# EAGLE library part MIKROE-924 (library MIKROE-924)
microSD click mikroBUS Source: Datasheet <https://www.mikroe.com/microsd-click>
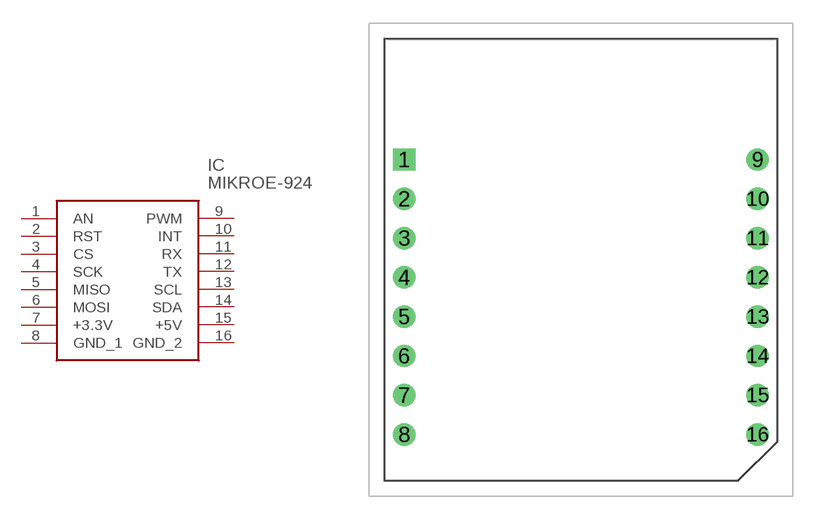
[diagram p0: symbol with the pads of MIKROE924; footprint MIKROE924]

Designator prefix IC

## MIKROE-924 (Description: microSD click mikroBUS; Height: 5mm; Manufacturer_Name: MIKROELEKTRONIKA; Manufacturer_Part_Number: MIKROE-924; Mouser_Part_Number: 932-MIKROE-924; Mouser_Price-Stock: https://www.mouser.com/Search/Refine.aspx?Keyword=932-MIKROE-924)  [MIKROE924]
1  AN
2  RST
3  CS
4  SCK
5  MISO
6  MOSI
7  +3.3V
8  GND_1
9  PWM
10  INT
11  RX
12  TX
13  SCL
14  SDA
15  +5V
16  GND_2

## Footprint MIKROE924 (pad centres in mm)
MIKROE-924-2
drill 0.889 pad 1.445 square: 1 0,0
drill 0.889 pad 1.445: 2 0,-2.54; 3 0,-5.08; 4 0,-7.62; 5 0,-10.16; 6 0,-12.7; 7 0,-15.24; 8 0,-17.78; 9 22.86,0; 10 22.86,-2.54; 11 22.86,-5.08; 12 22.86,-7.62; 13 22.86,-10.16; 14 22.86,-12.7; 15 22.86,-15.24; 16 22.86,-17.78